# EAGLE library part IN-12B_PS (library nixie-tube)
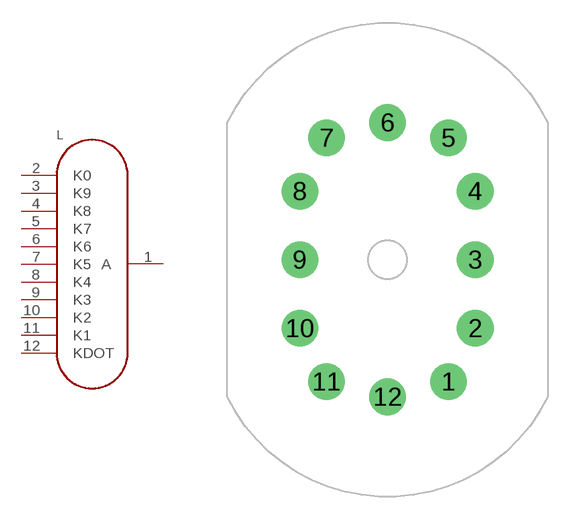
[diagram p0: symbol with the pads of IN-12_PS; footprint IN-12_PS]

Designator prefix L

## IN-12B_PS  [IN-12_PS]
1  A
2  K0
3  K9
4  K8
5  K7
6  K6
7  K5
8  K4
9  K3
10  K2
11  K1
12  KDOT

## Footprint IN-12_PS (pad centres in mm)
IN-12A, IN-12B, IN-15A, IN-15B Using "Mill-Max Manufacturing Corp. 0341-0-15-15-30-27-10-0" pin socket
drill 1.6: 1 4,-8; 2 5.75,-4.5; 3 5.75,0; 4 5.75,4.5; 5 4,8; 6 0,9; 7 -4,8; 8 -5.75,4.5; 9 -5.75,0; 10 -5.75,-4.5; 11 -4,-8; 12 0,-9